# Altium schematic symbol library TLP350.SchLib: 1 symbol
Pins are listed as number, name and electrical type; pins without a type are passive.

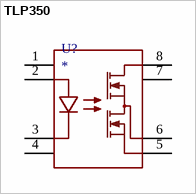
[diagram p0: symbol TLP350]

## TLP350
designator U?
footprint DIP8
pins: 1 NC, 2, 3, 4 NC, 5, 6, 7 NC, 8